# Altium footprint library JST Connector.PcbLib: 1 footprints
Each footprint in its own frame and in the unit in brackets; x right, y up, seen from the top. Pads: shape width x height; smd on the part's side, far side on the other; paste and mask are expansions set on the pad; w line width, h text height; cw(c..) or ccw(c..) is an arc to the next point about the centre after c.
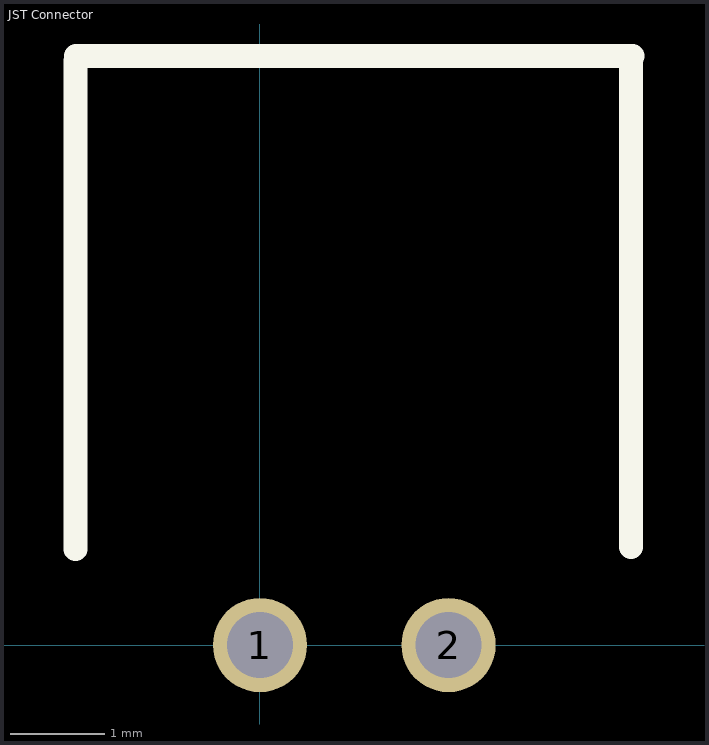
[diagram p0: the footprint, top view; thin cyan lines are the x and y axes]

## JST Connector [mm] "2 pin"
height 4.5
pads (2):
  round 1 hole 0.7: 1(0,0) 2(2,0)
Top Overlay:
  lines w0.254: -1.956,1.016 -1.956,6.198 ; -1.95,6.25 3.95,6.25 ; 3.937,1.041 3.937,6.223